# EAGLE library part LTC1867 (library borkedlabs-dataconversion)
16-bit, 8-channel 200ksps ADC
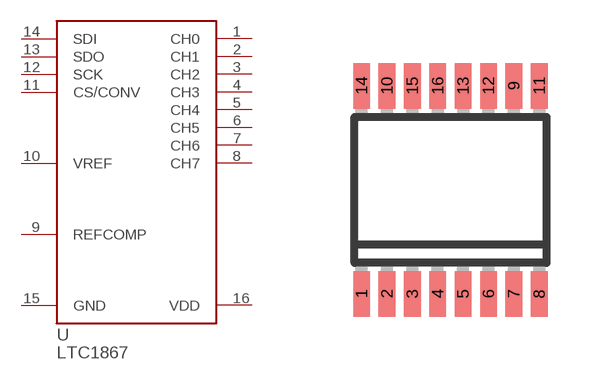
[diagram p2: symbol with the pads of SSOP16; footprint SSOP16]

Designator prefix U

## LTC1867  [SSOP16]
1  CH0
2  CH1
3  CH2
4  CH3
5  CH4
6  CH5
7  CH6
8  CH7
9  REFCOMP
10  VREF
11  CS/CONV
12  SCK
13  SDO
14  SDI
15  GND
16  VDD

## Footprint SSOP16 (pad centres in mm)
GN Package 16-Lead Plastic SSOP (Narrow .150 Inch) Source: http://cds.linear.com/docs/Datasheet/623012fb.pdf
smd 0.419 x 1.143: 1 -2.223,-2.6; 2 -1.587,-2.6; 3 -0.953,-2.6; 4 -0.318,-2.6; 5 0.318,-2.6; 6 0.953,-2.6; 7 1.587,-2.6; 8 2.223,-2.6; 9 1.587,2.6; 10 -1.587,2.6; 11 2.223,2.6; 12 0.953,2.6; 13 0.318,2.6; 14 -2.223,2.6; 15 -0.953,2.6; 16 -0.318,2.6